# Altium footprint library Synthiam.PcbLib: 481 footprints (part 1 of 31)
Each footprint in its own frame and in the unit in brackets; x right, y up, seen from the top. Pads: shape width x height; smd on the part's side, far side on the other; paste and mask are expansions set on the pad; w line width, h text height; cw(c..) or ccw(c..) is an arc to the next point about the centre after c.
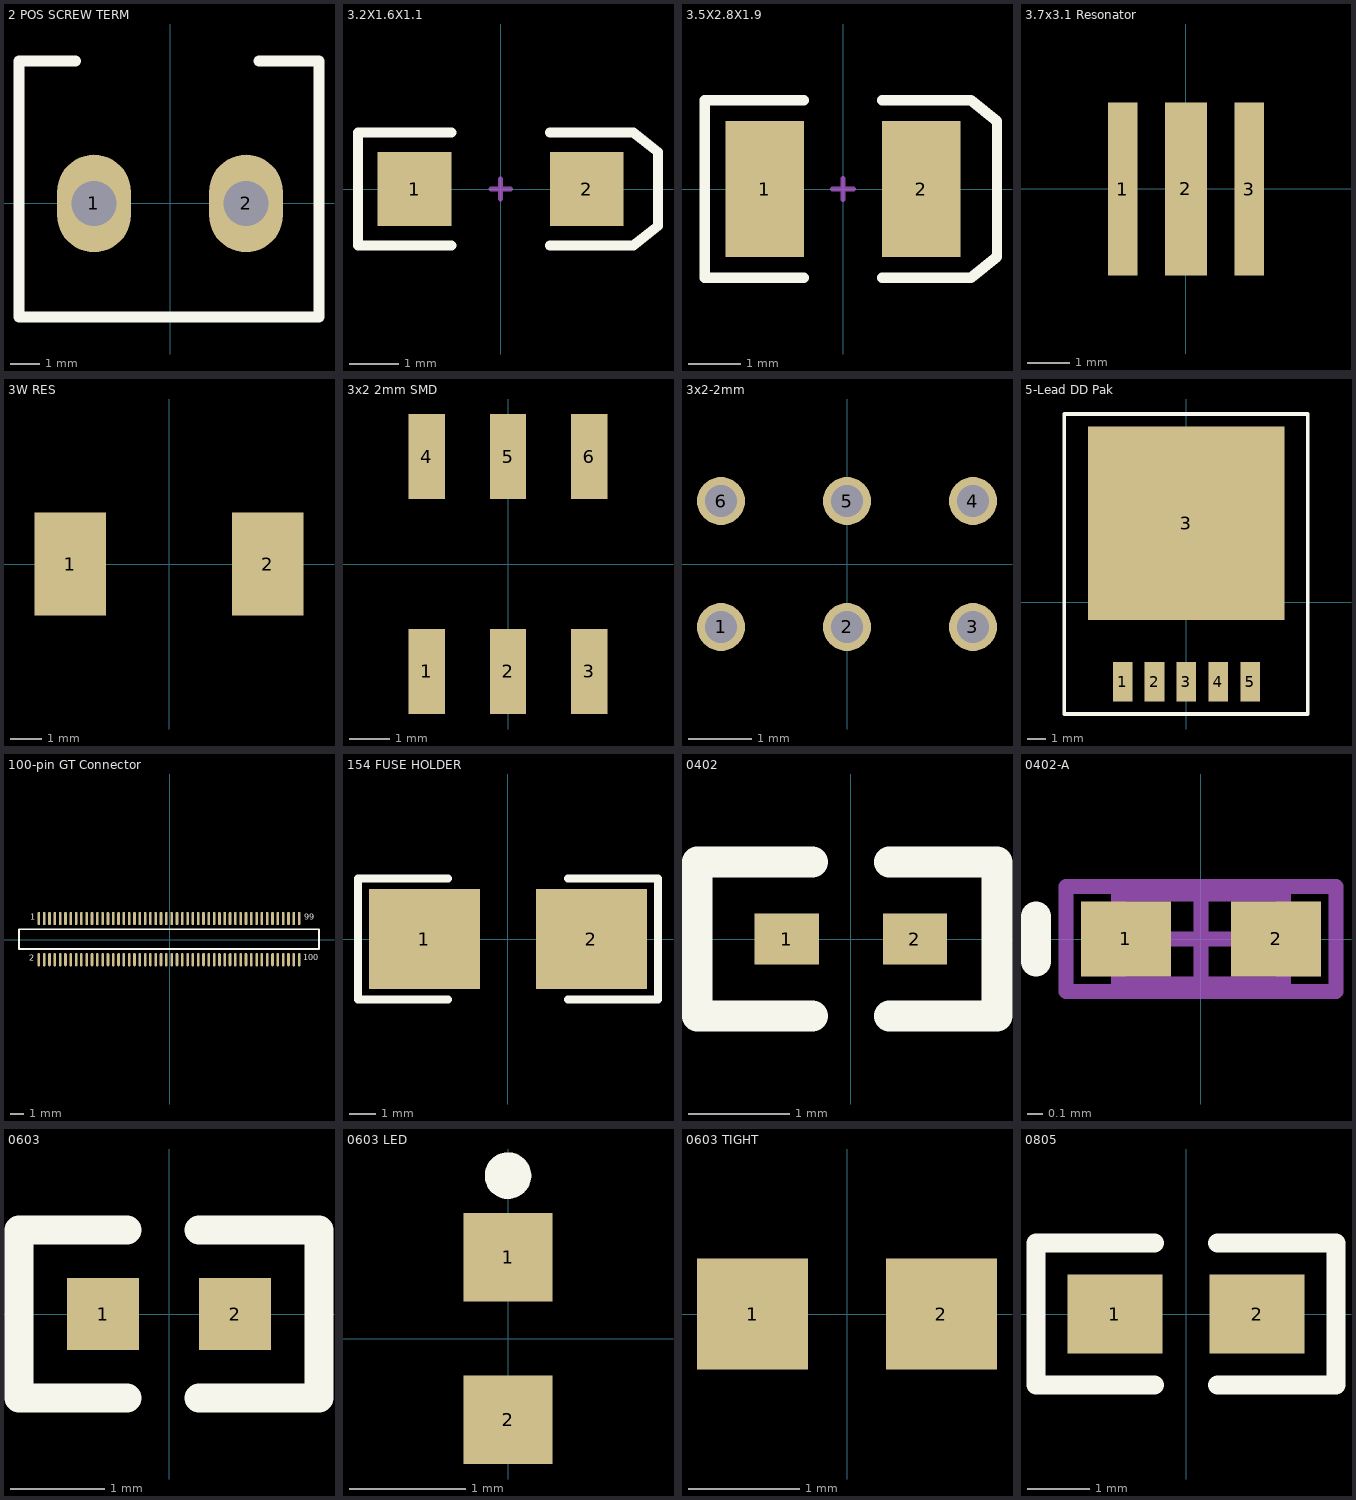
[diagram p0: the footprints below, top view; thin cyan lines are the x and y axes]

## 2 POS SCREW TERM [mil]
pads (2):
  oval 98.43x130 hole 59.5: 1(-101.4,0) 2(101.4,0)
Top Overlay:
  lines w15: -201.4,-151.3 -201.4,189.88 -126.4,189.88 ; -201.33,-151.3 198.67,-151.3 ; 118.6,189.88 198.6,189.88 198.6,-151.3

## 3.2X1.6X1.1 [mm] "SMT LED; 2 Flat Leads"
height 1.2
pads (2):
  rect 1.5x1.5 smd: 1(-1.75,0) 2(1.75,0)
Top Overlay:
  lines w0.2: -1,-1.15 -2.9,-1.15 -2.9,1.15 -1,1.15 ; 1,-1.15 2.7,-1.15 3.2,-0.75 3.2,0.75 2.7,1.15 1,1.15
Mechanical 1:
  lines w0.1: -0.2,0 0.2,0 ; 0,-0.2 0,0.2

## 3.5X2.8X1.9 [mm] "SM LED; 2 C-Bend Leads; Body 3.5 x 2.8 x 1.9 mm, inc leads (LxWxH typ)"
height 1.9
pads (2):
  rect 1.5x2.6 smd: 1(-1.5,0) 2(1.5,0)
Top Overlay:
  lines w0.2: -0.75,-1.7 -2.65,-1.7 -2.65,1.7 -0.75,1.7 ; 0.75,-1.7 2.45,-1.7 2.95,-1.3 2.95,1.3 2.45,1.7 0.75,1.7
Mechanical 1:
  lines w0.1: -0.2,0 0.2,0 ; 0,-0.2 0,0.2

## 3.7x3.1 Resonator [mm]
pads (3):
  rect 0.7x4.1 smd: 1(-1.5,0) 3(1.5,0)
  rect 1x4.1 smd: 2(0,0)

## 3W RES [mm]
pads (2):
  rect 2.3x3.3 smd: 1(-3.175,0) 2(3.175,0)

## 3x2 2mm SMD [mm] "4uconn #16558 / 4uconn #20017"
height 4.6
pads (6):
  rect 0.9x2.1 smd: 1(-2,-2.65) 2(0,-2.65) 3(2,-2.65) 4(-2,2.65) 5(0,2.65) 6(2,2.65)

## 3x2-2mm [mil] "3x2 Pin 2mm Header"
pads (6):
  round 30 hole 20: 1(-78.74,-39.37) 2(0,-39.37) 3(78.74,-39.37) 4(78.74,39.37) 5(0,39.37) 6(-78.74,39.37)

## 5-Lead DD Pak [mm]
pads (6):
  rect 1.05x2.1 smd: 1(-3.4,-4.225) 2(-1.7,-4.225) 3(0,-4.225) 4(1.7,-4.225) 5(3.4,-4.225)
  rect 10.5x10.3 smd: 3(-0.01,4.225)
Top Overlay:
  lines w0.2: -6.52,-5.95 -6.52,10.05 6.48,10.05 6.48,-5.95 -6.52,-5.95

## 100-pin GT Connector [mm]
pads (100):
  oval 0.2x1 smd: 1(-9.85,1.615) 2(-9.85,-1.485) 3(-9.45,1.615) 4(-9.45,-1.485) 5(-9.05,1.615) 6(-9.05,-1.485) 7(-8.65,1.615) 8(-8.65,-1.485) 9(-8.25,1.615) 10(-8.25,-1.485) 11(-7.85,1.615) 12(-7.85,-1.485) 13(-7.45,1.615) 14(-7.45,-1.485) 15(-7.05,1.615) 16(-7.05,-1.485) 17(-6.65,1.615) 18(-6.65,-1.485) 19(-6.25,1.615) 20(-6.25,-1.485) 21(-5.85,1.615) 22(-5.85,-1.485) 23(-5.45,1.615) 24(-5.45,-1.485) 25(-5.05,1.615) 26(-5.05,-1.485) 27(-4.65,1.615) 28(-4.65,-1.485) 29(-4.25,1.615) 30(-4.25,-1.485) 31(-3.85,1.615) 32(-3.85,-1.485) 33(-3.45,1.615) 34(-3.45,-1.485) 35(-3.05,1.615) 36(-3.05,-1.485) 37(-2.65,1.615) 38(-2.65,-1.485) 39(-2.25,1.615) 40(-2.25,-1.485) 41(-1.85,1.615) 42(-1.85,-1.485) 43(-1.45,1.615) 44(-1.45,-1.485) 45(-1.05,1.615) 46(-1.05,-1.485) 47(-0.65,1.615) 48(-0.65,-1.485) 49(-0.25,1.615) 50(-0.25,-1.485) 51(0.15,1.615) 52(0.15,-1.485) 53(0.55,1.615) 54(0.55,-1.485) 55(0.95,1.615) 56(0.95,-1.485) 57(1.35,1.615) 58(1.35,-1.485) 59(1.75,1.615) 60(1.75,-1.485) 61(2.15,1.615) 62(2.15,-1.485) 63(2.55,1.615) 64(2.55,-1.485) 65(2.95,1.615) 66(2.95,-1.485) 67(3.35,1.615) 68(3.35,-1.485) 69(3.75,1.615) 70(3.75,-1.485) 71(4.15,1.615) 72(4.15,-1.485) 73(4.55,1.615) 74(4.55,-1.485) 75(4.95,1.615) 76(4.95,-1.485) 77(5.35,1.615) 78(5.35,-1.485) 79(5.75,1.615) 80(5.75,-1.485) 81(6.15,1.615) 82(6.15,-1.485) 83(6.55,1.615) 84(6.55,-1.485) 85(6.95,1.615) 86(6.95,-1.485) 87(7.35,1.615) 88(7.35,-1.485) 89(7.75,1.615) 90(7.75,-1.485) 91(8.15,1.615) 92(8.15,-1.485) 93(8.55,1.615) 94(8.55,-1.485) 95(8.95,1.615) 96(8.95,-1.485) 97(9.35,1.615) 98(9.35,-1.485) 99(9.75,1.615) 100(9.75,-1.485)
Top Overlay:
  lines w0.127: -11.35,-0.685 -11.35,0.815 11.25,0.815 11.25,-0.685 -11.35,-0.685
  text "100" at 10.08,-1.675 h0.75
  text "99" at 10.13,1.385 h0.75
  text "2" at -10.57,-1.7 h0.75
  text "1" at -10.52,1.36 h0.75

## 154 FUSE HOLDER [mm]
pads (2):
  rect 4.24x3.81 smd: 1(-3.185,0) 2(3.185,0)
Top Overlay:
  lines w0.305: -2.286,-2.3 -5.72,-2.3 -5.72,2.315 -2.286,2.315 ; 2.286,-2.305 5.73,-2.305 5.73,2.315 2.286,2.315

## 0402 [mil]
height 181.1
pads (2):
  rect 25x20 smd: 1(-25,0) 2(25,0)
Top Overlay:
  lines w12: -15,-30 -60,-30 -60,30 -15,30 ; 15,-30 57,-30 57,30 15,30

## 0402-A [mm] "Chip Inductor, Body 1.0x0.5mm, IPC High Density"
height 0.55
pads (2):
  rect 0.6x0.5 smd: 1(-0.5,0) 2(0.5,0)
Top Overlay:
  lines w0.2: -1.1,-0.15 -1.1,0.15
Mechanical 13:
  lines w0.1: -0.55,-0.3 0.55,-0.3 0.55,0.3 -0.55,0.3 -0.55,-0.3
Mechanical 15:
  lines w0.1: -0.3,0 0.3,0 ; 0,-0.3 0,0.3 ; -0.9,-0.35 0.9,-0.35 0.9,0.35 -0.9,0.35 -0.9,-0.35
3D body: height 0.55, standoff 0, extent -0.55,-0.3 0.55,0.3

## 0603 [mil]
height 181.1
pads (2):
  rect 30x30 smd: 1(-27.5,0) 2(27.5,0)
Top Overlay:
  lines w12: -17.5,-35 -62.5,-35 -62.5,35 -17.5,35 ; 12.5,-35 62.5,-35 62.5,35 12.5,35

## 0603 LED [mil]
height 19.68
pads (2):
  rect 30x30 smd: 1(0,27.56) 2(0,-27.44)
Top Overlay:
  circle w7.87: c0,55.12 r3.94

## 0603 TIGHT [mm]
pads (2):
  rect 1x1 smd: 1(-0.85,0) 2(0.85,0)

## 0805 [mil]
height 181.1
pads (2):
  rect 60x50 smd: 1(-45,0) 2(45,0)
Top Overlay:
  lines w12: -20,-45 -95,-45 -95,45 -20,45 ; 20,-45 95,-45 95,45 20,45